# Altium schematic symbol library FERRITEBEAD_SMD.SchLib: 6 symbols
Pins are listed as number, name and electrical type; pins without a type are passive.

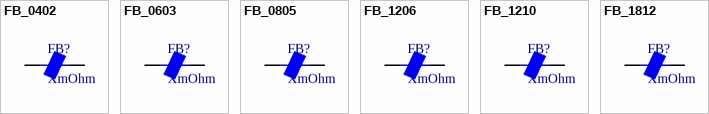
[diagram p0: symbols FB_0402 to FB_1812]

## FB_0402
designator FB?, comment XmOhm
0402 SMD Ferrite Bead.
footprint FB_0402 (Ferite bead SMD 0402.)
pins: 1, 2

## FB_0603
designator FB?, comment XmOhm
0603 SMD Ferrite Bead.
footprint FB_0603 (Ferite bead SMD 0603.)
pins: 1, 2

## FB_0805
designator FB?, comment XmOhm
0805 SMD Ferrite Bead.
footprint FB_0805 (Ferite bead SMD 0805.)
pins: 1, 2

## FB_1206
designator FB?, comment XmOhm
1206 SMD Ferrite Bead.
footprint FB_1206 (Ferite bead SMD 1206.)
pins: 1, 2

## FB_1210
designator FB?, comment XmOhm
1210 SMD Ferrite Bead.
footprint FB_1210 (Ferite bead SMD 1210.)
pins: 1, 2

## FB_1812
designator FB?, comment XmOhm
1812 SMD Ferrite Bead.
footprint FB_1812 (Ferite bead SMD 1812.)
pins: 1, 2